# Altium schematic symbol library Res0603.SchLib: 1 symbol
Pins are listed as number, name and electrical type; pins without a type are passive.

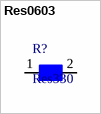
[diagram p0: symbol Res0603]

## Res0603
designator R?, comment Res330
footprint Res0603
pins: 1, 2